# Altium footprint library BGA64C65P8X8_600X600X120.PcbLib: 1 footprints
Each footprint in its own frame and in the unit in brackets; x right, y up, seen from the top. Pads: shape width x height; smd on the part's side, far side on the other; paste and mask are expansions set on the pad; w line width, h text height; cw(c..) or ccw(c..) is an arc to the next point about the centre after c.
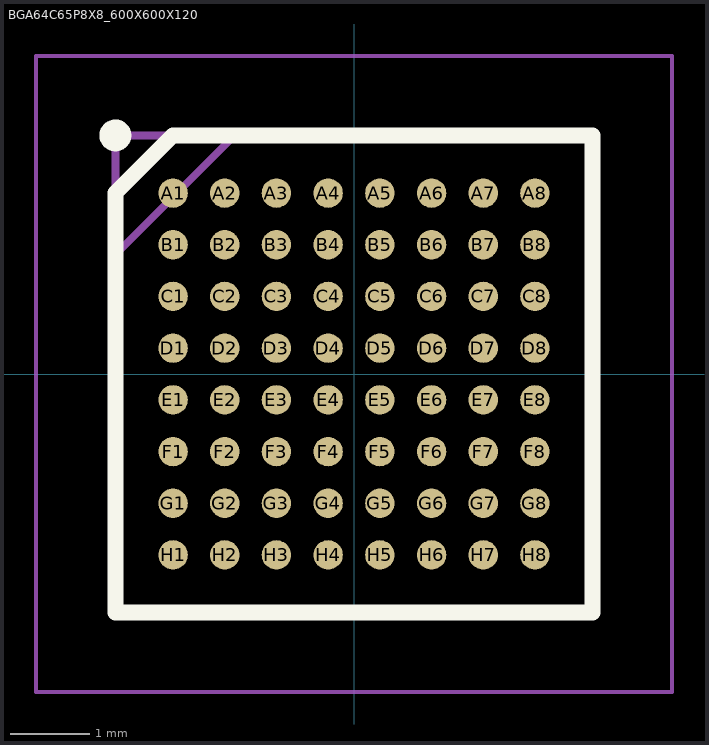
[diagram p0: the footprint, top view; thin cyan lines are the x and y axes]

## BGA64C65P8X8_600X600X120 [mm]
pads (64):
  round 0.37 smd: A1(-2.275,2.275) A2(-1.625,2.275) A3(-0.975,2.275) A4(-0.325,2.275) A5(0.325,2.275) A6(0.975,2.275) A7(1.625,2.275) A8(2.275,2.275) B1(-2.275,1.625) B2(-1.625,1.625) B3(-0.975,1.625) B4(-0.325,1.625) B5(0.325,1.625) B6(0.975,1.625) B7(1.625,1.625) B8(2.275,1.625) C1(-2.275,0.975) C2(-1.625,0.975) C3(-0.975,0.975) C4(-0.325,0.975) C5(0.325,0.975) C6(0.975,0.975) C7(1.625,0.975) C8(2.275,0.975) D1(-2.275,0.325) D2(-1.625,0.325) D3(-0.975,0.325) D4(-0.325,0.325) D5(0.325,0.325) D6(0.975,0.325) D7(1.625,0.325) D8(2.275,0.325) E1(-2.275,-0.325) E2(-1.625,-0.325) E3(-0.975,-0.325) E4(-0.325,-0.325) E5(0.325,-0.325) E6(0.975,-0.325) E7(1.625,-0.325) E8(2.275,-0.325) F1(-2.275,-0.975) F2(-1.625,-0.975) F3(-0.975,-0.975) F4(-0.325,-0.975) F5(0.325,-0.975) F6(0.975,-0.975) F7(1.625,-0.975) F8(2.275,-0.975) G1(-2.275,-1.625) G2(-1.625,-1.625) G3(-0.975,-1.625) G4(-0.325,-1.625) G5(0.325,-1.625) G6(0.975,-1.625) G7(1.625,-1.625) G8(2.275,-1.625) H1(-2.275,-2.275) H2(-1.625,-2.275) H3(-0.975,-2.275) H4(-0.325,-2.275) H5(0.325,-2.275) H6(0.975,-2.275) H7(1.625,-2.275) H8(2.275,-2.275)
Top Overlay:
  circle w0.2: c-3,3 r0.1
  lines w0.2: -3,-3 3,-3 3,3 -2.275,3 -3,2.275 -3,-3
Mechanical 15:
  lines w0.1: -3,1.5 -1.5,3 ; -3,-3 3,-3 3,3 -3,3 -3,-3
Mechanical 20:
  lines w0.05: -4,-4 4,-4 4,4 -4,4 -4,-4